# Altium integrated library NSC Interface.IntLib: 504 symbols (part 13 of 16)
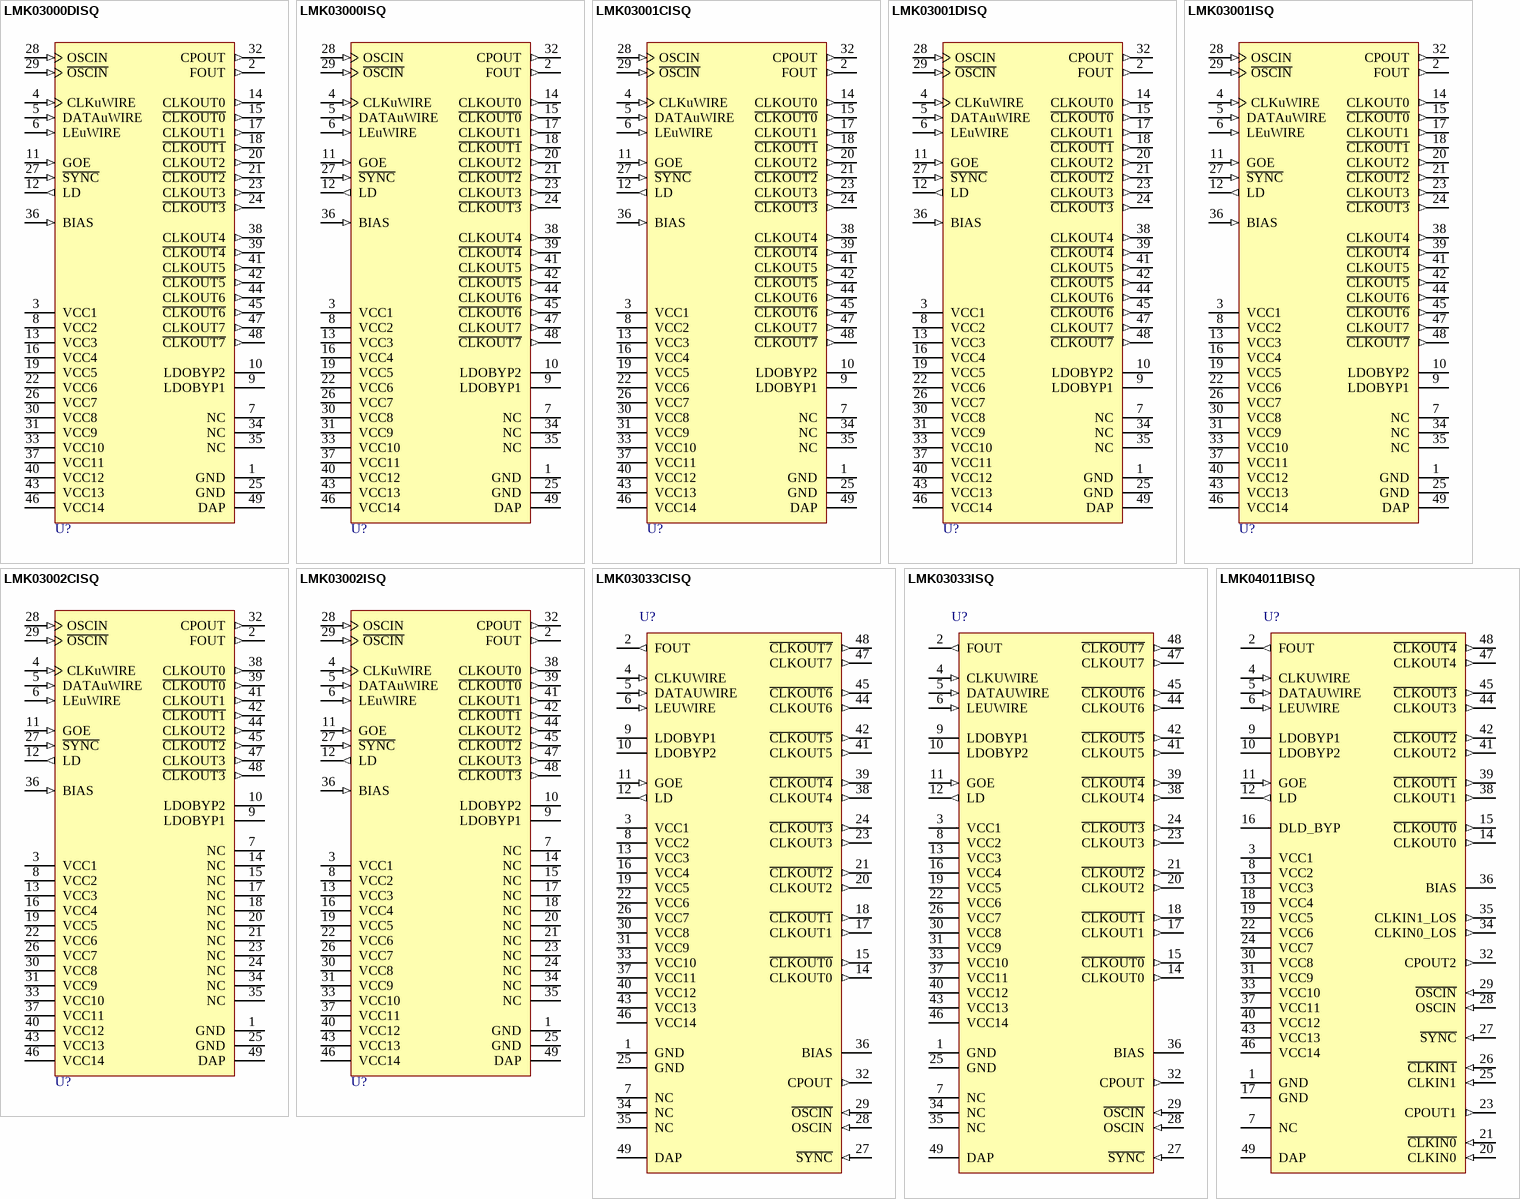
[diagram p53: symbols LMK03000DISQ to LMK04011BISQ]

## LMK03001DISQ
designator U?
Precision Clock Conditioner with Integrated VCO; PartNumber: LMK03001DISQ; Manufacturer: National Semiconductor; CompType: Interface IC; PackageTopMarking: NS*UZXYTT*K03001DI; PowerWise: N; Published: 4-Dec-2008; DatasheetVersion: Mar-2008; PackageVersion: revA, May-2003; PackageReference: SQA48A; Publisher: Altium Limited; PackageDescription: LLP, Plastic, Quad, 7 x 7 x 0.8mm Body, 48 Lead, 0.5mm Pitch, No Pullback; RoHS: Y; PinCount: 48; DigiKeyPartNumber: LMK03001DISQX-ND; Code_JEDEC: MO-220-WKKD-2; ComponentLink1Description: LMK03001 Datasheet; ComponentLink1URL: http://www.national.com/ds/LM/LMK03001D.pdf; ComponentLink2Description: LMK03001 Web Page; ComponentLink2URL: http://www.national.com/pf/LM/LMK03001.html; ComponentLink3Description: SQA48A Package Page; ComponentLink3URL: http://www.national.com/packaging/folders/sqa48a.html
footprint SQA48A (QFN, 48-Leads, Body 7x7mm, Pitch 0.5mm, NSC Recommended)
pins: 1 GND (power), 2 FOUT (out), 3 VCC1 (power), 4 CLKuWIRE (in), 5 DATAuWIRE (in), 6 LEuWIRE (in), 7 NC, 8 VCC2 (power), 9 LDOBYP1, 10 LDOBYP2, 11 GOE (in), 12 LD (out), 13 VCC3 (power), 14 CLKOUT0 (out), 15 ~{CLKOUT0} (out), 16 VCC4 (power), 17 CLKOUT1 (out), 18 ~{CLKOUT1} (out), 19 VCC5 (power), 20 CLKOUT2 (out), 21 ~{CLKOUT2} (out), 22 VCC6 (power), 23 CLKOUT3 (out), 24 ~{CLKOUT3} (out), 25 GND (power), 26 VCC7 (power), 27 ~{SYNC} (in), 28 OSCIN (in), 29 ~{OSCIN} (in), 30 VCC8 (power), 31 VCC9 (power), 32 CPOUT (out), 33 VCC10 (power), 34 NC, 35 NC, 36 BIAS (in), 37 VCC11 (power), 38 CLKOUT4 (out), 39 ~{CLKOUT4} (out), 40 VCC12 (power), 41 CLKOUT5 (out), 42 ~{CLKOUT5} (out), 43 VCC13 (power), 44 CLKOUT6 (out), 45 ~{CLKOUT6} (out), 46 VCC14 (power), 47 CLKOUT7 (out), 48 ~{CLKOUT7} (out), 49 DAP (power)

## LMK03001ISQ
designator U?
Precision Clock Conditioner with Integrated VCO; PartNumber: LMK03001ISQ; Manufacturer: National Semiconductor; CompType: Interface IC; PackageTopMarking: NS*UZXYTT*K03001 I; PowerWise: Y; Published: 4-Dec-2008; DatasheetVersion: Mar-2008; PackageVersion: revA, May-2003; PackageReference: SQA48A; Publisher: Altium Limited; PackageDescription: LLP, Plastic, Quad, 7 x 7 x 0.8mm Body, 48 Lead, 0.5mm Pitch, No Pullback; RoHS: Y; PinCount: 48; DigiKeyPartNumber: LMK03001ISQTR-ND; Code_JEDEC: MO-220-WKKD-2; ComponentLink1Description: LMK03001 Datasheet; ComponentLink1URL: http://www.national.com/ds/LM/LMK03001.pdf; ComponentLink2Description: LMK03001 Web Page; ComponentLink2URL: http://www.national.com/pf/LM/LMK03001.html; ComponentLink3Description: SQA48A Package Page; ComponentLink3URL: http://www.national.com/packaging/folders/sqa48a.html
footprint SQA48A (QFN, 48-Leads, Body 7x7mm, Pitch 0.5mm, NSC Recommended)
pins: 1 GND (power), 2 FOUT (out), 3 VCC1 (power), 4 CLKuWIRE (in), 5 DATAuWIRE (in), 6 LEuWIRE (in), 7 NC, 8 VCC2 (power), 9 LDOBYP1, 10 LDOBYP2, 11 GOE (in), 12 LD (out), 13 VCC3 (power), 14 CLKOUT0 (out), 15 ~{CLKOUT0} (out), 16 VCC4 (power), 17 CLKOUT1 (out), 18 ~{CLKOUT1} (out), 19 VCC5 (power), 20 CLKOUT2 (out), 21 ~{CLKOUT2} (out), 22 VCC6 (power), 23 CLKOUT3 (out), 24 ~{CLKOUT3} (out), 25 GND (power), 26 VCC7 (power), 27 ~{SYNC} (in), 28 OSCIN (in), 29 ~{OSCIN} (in), 30 VCC8 (power), 31 VCC9 (power), 32 CPOUT (out), 33 VCC10 (power), 34 NC, 35 NC, 36 BIAS (in), 37 VCC11 (power), 38 CLKOUT4 (out), 39 ~{CLKOUT4} (out), 40 VCC12 (power), 41 CLKOUT5 (out), 42 ~{CLKOUT5} (out), 43 VCC13 (power), 44 CLKOUT6 (out), 45 ~{CLKOUT6} (out), 46 VCC14 (power), 47 CLKOUT7 (out), 48 ~{CLKOUT7} (out), 49 DAP (power)

## LMK03002CISQ
designator U?
Precision Clock Conditioner with Integrated VCO; PartNumber: LMK03002CISQ; Manufacturer: National Semiconductor; CompType: Interface IC; PackageTopMarking: NS*UZXYTT*K03002CI; PowerWise: Y; Published: 4-Dec-2008; DatasheetVersion: Aug-2007; PackageVersion: revA, May-2003; PackageReference: SQA48A; Publisher: Altium Limited; PackageDescription: LLP, Plastic, Quad, 7 x 7 x 0.8mm Body, 48 Lead, 0.5mm Pitch, No Pullback; RoHS: Y; PinCount: 48; DigiKeyPartNumber: LMK03002CISQTR-ND; Code_JEDEC: MO-220-WKKD-2; ComponentLink1Description: LMK03002C Datasheet; ComponentLink1URL: http://www.national.com/ds/LM/LMK03002C.pdf; ComponentLink2Description: LMK03002C Web Page; ComponentLink2URL: http://www.national.com/pf/LM/LMK03002C.html; ComponentLink3Description: SQA48A Package Page; ComponentLink3URL: http://www.national.com/packaging/folders/sqa48a.html
footprint SQA48A (QFN, 48-Leads, Body 7x7mm, Pitch 0.5mm, NSC Recommended)
pins: 1 GND (power), 2 FOUT (out), 3 VCC1 (power), 4 CLKuWIRE (in), 5 DATAuWIRE (in), 6 LEuWIRE (in), 7 NC, 8 VCC2 (power), 9 LDOBYP1, 10 LDOBYP2, 11 GOE (in), 12 LD (out), 13 VCC3 (power), 14 NC, 15 NC, 16 VCC4 (power), 17 NC, 18 NC, 19 VCC5 (power), 20 NC, 21 NC, 22 VCC6 (power), 23 NC, 24 NC, 25 GND (power), 26 VCC7 (power), 27 ~{SYNC} (in), 28 OSCIN (in), 29 ~{OSCIN} (in), 30 VCC8 (power), 31 VCC9 (power), 32 CPOUT (out), 33 VCC10 (power), 34 NC, 35 NC, 36 BIAS (in), 37 VCC11 (power), 38 CLKOUT0 (out), 39 ~{CLKOUT0} (out), 40 VCC12 (power), 41 CLKOUT1 (out), 42 ~{CLKOUT1} (out), 43 VCC13 (power), 44 CLKOUT2 (out), 45 ~{CLKOUT2} (out), 46 VCC14 (power), 47 CLKOUT3 (out), 48 ~{CLKOUT3} (out), 49 DAP (power)

## LMK03002ISQ
designator U?
Precision Clock Conditioner with Integrated VCO; PartNumber: LMK03002ISQ; Manufacturer: National Semiconductor; CompType: Interface IC; PackageTopMarking: NS*UZXYTT*K03002 I; PowerWise: Y; Published: 4-Dec-2008; DatasheetVersion: Aug-2007; PackageVersion: revA, May-2003; PackageReference: SQA48A; Publisher: Altium Limited; PackageDescription: LLP, Plastic, Quad, 7 x 7 x 0.8mm Body, 48 Lead, 0.5mm Pitch, No Pullback; RoHS: Y; PinCount: 48; DigiKeyPartNumber: LMK03002ISQTR-ND; Code_JEDEC: MO-220-WKKD-2; ComponentLink1Description: LMK03002 Datasheet; ComponentLink1URL: http://www.national.com/ds/LM/LMK03002.pdf; ComponentLink2Description: LMK03002 Web Page; ComponentLink2URL: http://www.national.com/pf/LM/LMK03002.html; ComponentLink3Description: SQA48A Package Page; ComponentLink3URL: http://www.national.com/packaging/folders/sqa48a.html
footprint SQA48A (QFN, 48-Leads, Body 7x7mm, Pitch 0.5mm, NSC Recommended)
pins: 1 GND (power), 2 FOUT (out), 3 VCC1 (power), 4 CLKuWIRE (in), 5 DATAuWIRE (in), 6 LEuWIRE (in), 7 NC, 8 VCC2 (power), 9 LDOBYP1, 10 LDOBYP2, 11 GOE (in), 12 LD (out), 13 VCC3 (power), 14 NC, 15 NC, 16 VCC4 (power), 17 NC, 18 NC, 19 VCC5 (power), 20 NC, 21 NC, 22 VCC6 (power), 23 NC, 24 NC, 25 GND (power), 26 VCC7 (power), 27 ~{SYNC} (in), 28 OSCIN (in), 29 ~{OSCIN} (in), 30 VCC8 (power), 31 VCC9 (power), 32 CPOUT (out), 33 VCC10 (power), 34 NC, 35 NC, 36 BIAS (in), 37 VCC11 (power), 38 CLKOUT0 (out), 39 ~{CLKOUT0} (out), 40 VCC12 (power), 41 CLKOUT1 (out), 42 ~{CLKOUT1} (out), 43 VCC13 (power), 44 CLKOUT2 (out), 45 ~{CLKOUT2} (out), 46 VCC14 (power), 47 CLKOUT3 (out), 48 ~{CLKOUT3} (out), 49 DAP (power)

## LMK03033CISQ
designator U?
Precision Clock Conditioner with Integrated VCO; PartNumber: LMK03033CISQ; Manufacturer: National Semiconductor; CompType: Interface IC; PackageTopMarking: NS*UZXYTT*K03033CI; PowerWise: Y; Published: 4-Dec-2008; LatestRevisionDate: 29-May-2009; LatestRevisionNote: Sch layout changed, complimentary pins marked.; DatasheetVersion: Sep-2008; PackageVersion: revA, May-2003; PackageReference: SQA48A; Publisher: Altium Limited; RoHS: Y; PinCount: 48; Code_JEDEC: MO-220-WKKD-2; ComponentLink1Description: LMK03033C Datasheet; ComponentLink1URL: http://www.national.com/ds/LM/LMK03033C.pdf; ComponentLink2Description: LMK03033C Web Page; ComponentLink2URL: http://www.national.com/pf/LM/LMK03033C.html; ComponentLink3Description: SQA48A Package Page; ComponentLink3URL: http://www.national.com/packaging/folders/sqa48a.html
footprint SQA48A (QFN, 48-Leads, Body 7x7mm, Pitch 0.5mm, NSC Recommended)
pins: 1 GND (power), 2 FOUT (out), 3 VCC1 (power), 4 CLKUWIRE (in), 5 DATAUWIRE (in), 6 LEUWIRE (in), 7 NC, 8 VCC2 (power), 9 LDOBYP1, 10 LDOBYP2, 11 GOE (in), 12 LD (out), 13 VCC3 (power), 14 CLKOUT0 (out), 15 ~{CLKOUT0} (out), 16 VCC4 (power), 17 CLKOUT1 (out), 18 ~{CLKOUT1} (out), 19 VCC5 (power), 20 CLKOUT2 (out), 21 ~{CLKOUT2} (out), 22 VCC6 (power), 23 CLKOUT3 (out), 24 ~{CLKOUT3} (out), 25 GND (power), 26 VCC7 (power), 27 ~{SYNC} (in), 28 OSCIN (in), 29 ~{OSCIN} (in), 30 VCC8 (power), 31 VCC9 (power), 32 CPOUT (out), 33 VCC10 (power), 34 NC, 35 NC, 36 BIAS, 37 VCC11 (power), 38 CLKOUT4 (out), 39 ~{CLKOUT4} (out), 40 VCC12 (power), 41 CLKOUT5 (out), 42 ~{CLKOUT5} (out), 43 VCC13 (power), 44 CLKOUT6 (out), 45 ~{CLKOUT6} (out), 46 VCC14 (power), 47 CLKOUT7 (out), 48 ~{CLKOUT7} (out), 49 DAP (power)

## LMK03033ISQ
designator U?
Precision Clock Conditioner with Integrated VCO; PartNumber: LMK03033ISQ; Manufacturer: National Semiconductor; CompType: Interface IC; PackageTopMarking: NS*UZXYTT*K03033 I; PowerWise: Y; Published: 4-Dec-2008; LatestRevisionDate: 29-May-2009; LatestRevisionNote: Sch layout changed, complimentary pins marked.; DatasheetVersion: Sep-2008; PackageVersion: revA, May-2003; PackageReference: SQA48A; Publisher: Altium Limited; RoHS: Y; PinCount: 48; Code_JEDEC: MO-220-WKKD-2; ComponentLink1Description: LMK03033 Datasheet; ComponentLink1URL: http://www.national.com/ds/LM/LMK03033.pdf; ComponentLink2Description: LMK03033 Web Page; ComponentLink2URL: http://www.national.com/pf/LM/LMK03033.html; ComponentLink3Description: SQA48A Package Page; ComponentLink3URL: http://www.national.com/packaging/folders/sqa48a.html
footprint SQA48A (QFN, 48-Leads, Body 7x7mm, Pitch 0.5mm, NSC Recommended)
pins: 1 GND (power), 2 FOUT (out), 3 VCC1 (power), 4 CLKUWIRE (in), 5 DATAUWIRE (in), 6 LEUWIRE (in), 7 NC, 8 VCC2 (power), 9 LDOBYP1, 10 LDOBYP2, 11 GOE (in), 12 LD (out), 13 VCC3 (power), 14 CLKOUT0 (out), 15 ~{CLKOUT0} (out), 16 VCC4 (power), 17 CLKOUT1 (out), 18 ~{CLKOUT1} (out), 19 VCC5 (power), 20 CLKOUT2 (out), 21 ~{CLKOUT2} (out), 22 VCC6 (power), 23 CLKOUT3 (out), 24 ~{CLKOUT3} (out), 25 GND (power), 26 VCC7 (power), 27 ~{SYNC} (in), 28 OSCIN (in), 29 ~{OSCIN} (in), 30 VCC8 (power), 31 VCC9 (power), 32 CPOUT (out), 33 VCC10 (power), 34 NC, 35 NC, 36 BIAS, 37 VCC11 (power), 38 CLKOUT4 (out), 39 ~{CLKOUT4} (out), 40 VCC12 (power), 41 CLKOUT5 (out), 42 ~{CLKOUT5} (out), 43 VCC13 (power), 44 CLKOUT6 (out), 45 ~{CLKOUT6} (out), 46 VCC14 (power), 47 CLKOUT7 (out), 48 ~{CLKOUT7} (out), 49 DAP (power)

## LMK04011BISQ
designator U?
Precision Clock Conditioners Low-Noise Clock Jitter Cleaner with Cascaded PLLs; PartNumber: LMK04011BISQ; Manufacturer: National Semiconductor; CompType: Interface IC; PackageTopMarking: NS*UZXYTT*K04011BI; PowerWise: Y; Published: 4-Dec-2008; LatestRevisionDate: 29-May-2009; LatestRevisionNote: Sch layout changed, complimentary pins marked.; DatasheetVersion: Oct-2008; PackageVersion: revA, May-2003; PackageReference: SQA48A; Publisher: Altium Limited; RoHS: Y; PinCount: 48; DigiKeyPartNumber: LMK04011BISQ-ND; Code_JEDEC: MO-220-WKKD-2; ComponentLink1Description: LMK04011B Datasheet; ComponentLink1URL: http://www.national.com/ds/LM/LMK04011B.pdf; ComponentLink2Description: LMK04011B Web Page; ComponentLink2URL: http://www.national.com/pf/LM/LMK04011B.html; ComponentLink3Description: SQA48A Package Page; ComponentLink3URL: http://www.national.com/packaging/folders/sqa48a.html
footprint SQA48A (QFN, 48-Leads, Body 7x7mm, Pitch 0.5mm, NSC Recommended)
pins: 1 GND (power), 2 FOUT (out), 3 VCC1 (power), 4 CLKUWIRE (in), 5 DATAUWIRE (in), 6 LEUWIRE (in), 7 NC, 8 VCC2 (power), 9 LDOBYP1, 10 LDOBYP2, 11 GOE (in), 12 LD (out), 13 VCC3 (power), 14 CLKOUT0 (out), 15 ~{CLKOUT0} (out), 16 DLD_BYP (power), 17 GND (power), 18 VCC4 (power), 19 VCC5 (power), 20 CLKIN0 (in), 21 ~{CLKIN0} (in), 22 VCC6 (power), 23 CPOUT1 (out), 24 VCC7 (power), 25 CLKIN1 (in), 26 ~{CLKIN1} (in), 27 ~{SYNC} (in), 28 OSCIN (in), 29 ~{OSCIN} (in), 30 VCC8 (power), 31 VCC9 (power), 32 CPOUT2 (out), 33 VCC10 (power), 34 CLKIN0_LOS (out), 35 CLKIN1_LOS (out), 36 BIAS, 37 VCC11 (power), 38 CLKOUT1 (out), 39 ~{CLKOUT1} (out), 40 VCC12 (power), 41 CLKOUT2 (out), 42 ~{CLKOUT2} (out), 43 VCC13 (power), 44 CLKOUT3 (out), 45 ~{CLKOUT3} (out), 46 VCC14 (power), 47 CLKOUT4 (out), 48 ~{CLKOUT4} (out), 49 DAP (power)

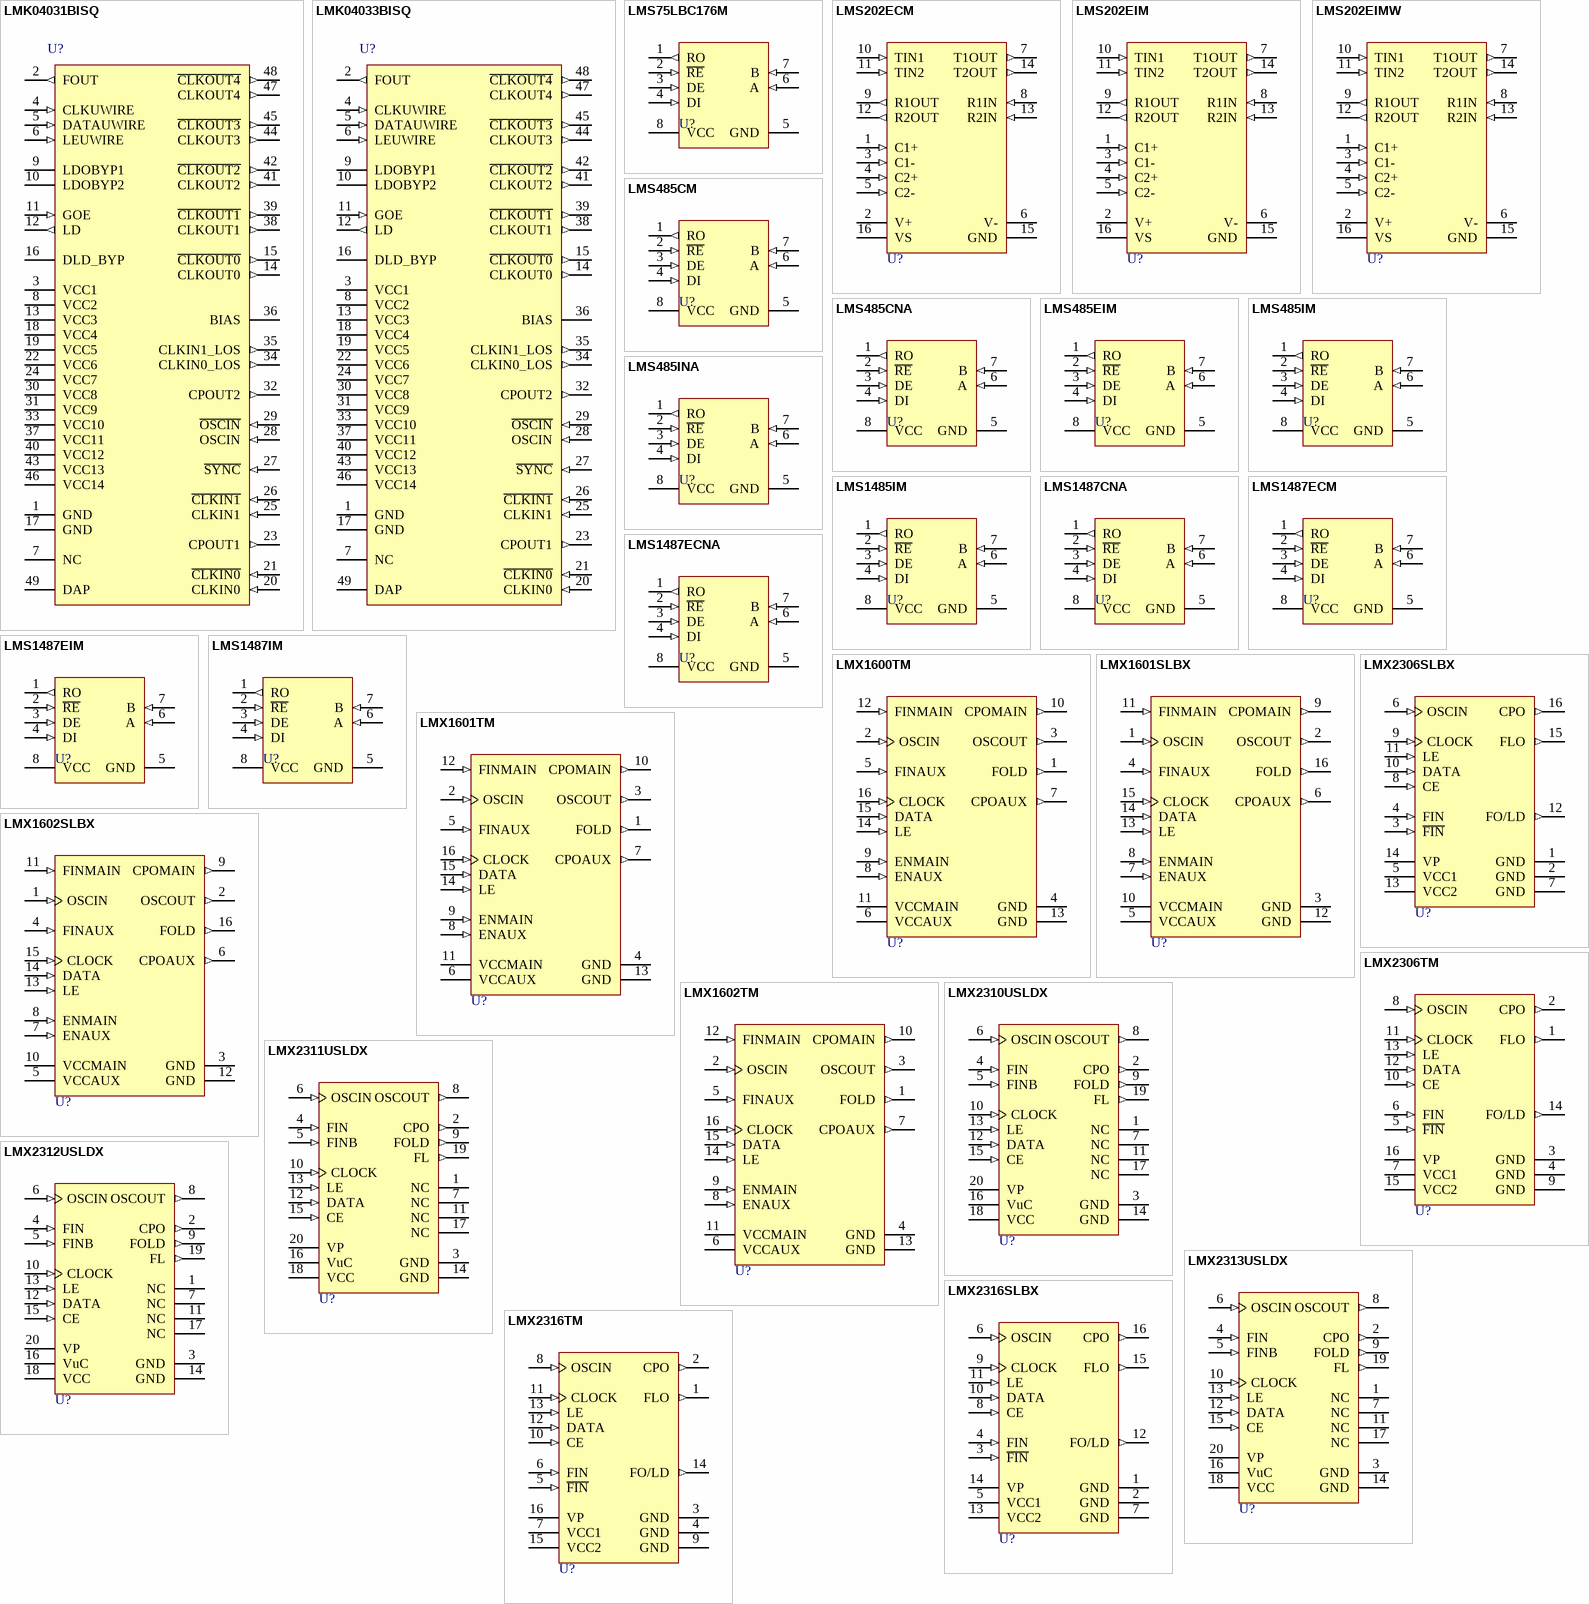
[diagram p33: symbols LMK04031BISQ to LMX2316TM]

## LMK04031BISQ
designator U?
Precision Clock Conditioners Low-Noise Clock Jitter Cleaner with Cascaded PLLs; PartNumber: LMK04031BISQ; Manufacturer: National Semiconductor; CompType: Interface IC; PackageTopMarking: NS*UZXYTT*K04031BI; PowerWise: Y; Published: 4-Dec-2008; LatestRevisionDate: 29-May-2009; LatestRevisionNote: Sch layout changed, complimentary pins marked.; DatasheetVersion: Oct-2008; PackageVersion: revA, May-2003; PackageReference: SQA48A; Publisher: Altium Limited; RoHS: Y; PinCount: 48; DigiKeyPartNumber: LMK04031BISQ-ND; Code_JEDEC: MO-220-WKKD-2; ComponentLink1Description: LMK04031B Datasheet; ComponentLink1URL: http://www.national.com/ds/LM/LMK04031B.pdf; ComponentLink2Description: LMK04031B Web Page; ComponentLink2URL: http://www.national.com/pf/LM/LMK04031B.html; ComponentLink3Description: SQA48A Package Page; ComponentLink3URL: http://www.national.com/packaging/folders/sqa48a.html
footprint SQA48A (QFN, 48-Leads, Body 7x7mm, Pitch 0.5mm, NSC Recommended)
pins: 1 GND (power), 2 FOUT (out), 3 VCC1 (power), 4 CLKUWIRE (in), 5 DATAUWIRE (in), 6 LEUWIRE (in), 7 NC, 8 VCC2 (power), 9 LDOBYP1, 10 LDOBYP2, 11 GOE (in), 12 LD (out), 13 VCC3 (power), 14 CLKOUT0 (out), 15 ~{CLKOUT0} (out), 16 DLD_BYP (power), 17 GND (power), 18 VCC4 (power), 19 VCC5 (power), 20 CLKIN0 (in), 21 ~{CLKIN0} (in), 22 VCC6 (power), 23 CPOUT1 (out), 24 VCC7 (power), 25 CLKIN1 (in), 26 ~{CLKIN1} (in), 27 ~{SYNC} (in), 28 OSCIN (in), 29 ~{OSCIN} (in), 30 VCC8 (power), 31 VCC9 (power), 32 CPOUT2 (out), 33 VCC10 (power), 34 CLKIN0_LOS (out), 35 CLKIN1_LOS (out), 36 BIAS, 37 VCC11 (power), 38 CLKOUT1 (out), 39 ~{CLKOUT1} (out), 40 VCC12 (power), 41 CLKOUT2 (out), 42 ~{CLKOUT2} (out), 43 VCC13 (power), 44 CLKOUT3 (out), 45 ~{CLKOUT3} (out), 46 VCC14 (power), 47 CLKOUT4 (out), 48 ~{CLKOUT4} (out), 49 DAP (power)

## LMK04033BISQ
designator U?
Precision Clock Conditioners Low-Noise Clock Jitter Cleaner with Cascaded PLLs; PartNumber: LMK04033BISQ; Manufacturer: National Semiconductor; CompType: Interface IC; PackageTopMarking: NS*UZXYTT*K04033BI; PowerWise: Y; Published: 4-Dec-2008; LatestRevisionDate: 29-May-2009; LatestRevisionNote: Sch layout changed, complimentary pins marked.; DatasheetVersion: Oct-2008; PackageVersion: revA, May-2003; PackageReference: SQA48A; Publisher: Altium Limited; RoHS: Y; PinCount: 48; Code_JEDEC: MO-220-WKKD-2; ComponentLink1Description: LMK04033B Datasheet; ComponentLink1URL: http://www.national.com/ds/LM/LMK04033B.pdf; ComponentLink2Description: LMK04033B Web Page; ComponentLink2URL: http://www.national.com/pf/LM/LMK04033B.html; ComponentLink3Description: SQA48A Package Page; ComponentLink3URL: http://www.national.com/packaging/folders/sqa48a.html
footprint SQA48A (QFN, 48-Leads, Body 7x7mm, Pitch 0.5mm, NSC Recommended)
pins: 1 GND (power), 2 FOUT (out), 3 VCC1 (power), 4 CLKUWIRE (in), 5 DATAUWIRE (in), 6 LEUWIRE (in), 7 NC, 8 VCC2 (power), 9 LDOBYP1, 10 LDOBYP2, 11 GOE (in), 12 LD (out), 13 VCC3 (power), 14 CLKOUT0 (out), 15 ~{CLKOUT0} (out), 16 DLD_BYP (power), 17 GND (power), 18 VCC4 (power), 19 VCC5 (power), 20 CLKIN0 (in), 21 ~{CLKIN0} (in), 22 VCC6 (power), 23 CPOUT1 (out), 24 VCC7 (power), 25 CLKIN1 (in), 26 ~{CLKIN1} (in), 27 ~{SYNC} (in), 28 OSCIN (in), 29 ~{OSCIN} (in), 30 VCC8 (power), 31 VCC9 (power), 32 CPOUT2 (out), 33 VCC10 (power), 34 CLKIN0_LOS (out), 35 CLKIN1_LOS (out), 36 BIAS, 37 VCC11 (power), 38 CLKOUT1 (out), 39 ~{CLKOUT1} (out), 40 VCC12 (power), 41 CLKOUT2 (out), 42 ~{CLKOUT2} (out), 43 VCC13 (power), 44 CLKOUT3 (out), 45 ~{CLKOUT3} (out), 46 VCC14 (power), 47 CLKOUT4 (out), 48 ~{CLKOUT4} (out), 49 DAP (power)

## LMS75LBC176M
designator U?
Differential Bus Transceivers; PartNumber: LMS75LBC176M; Manufacturer: National Semiconductor; CompType: Interface IC; PackageTopMarking: NSZXTT*75LBC*176; Published: 4-Dec-2008; DatasheetVersion: Apr-2003; PackageVersion: revL, Sep-2006; PackageReference: M08A; Publisher: Altium Limited; PackageDescription: SOIC Narrow, 4.9 x 3.9 x 1.45mm, 8 Lead, 1.27mm Pitch; RoHS: Y; PinCount: 8; Code_JEDEC: MS-012-AA; Code_IPC: SOIC127P600-8; ComponentLink1Description: LMS75LBC176 Datasheet; ComponentLink1URL: http://www.national.com/ds/LM/LMS75LBC176.pdf; ComponentLink2Description: LMS75LBC176 Web Page; ComponentLink2URL: http://www.national.com/pf/LM/LMS75LBC176.html; ComponentLink3Description: M08A Package Page; ComponentLink3URL: http://www.national.com/packaging/folders/m08a.html
footprint M08A_N (SOIC, 8-Leads, Body 4.9x3.9mm, Pitch 1.27mm, IPC Medium Density)
footprint M08A_L (SOIC, 8-Leads, Body 4.9x3.9mm, Pitch 1.27mm, IPC High Density)
footprint M08A_M (SOIC, 8-Leads, Body 4.9x3.9mm, Pitch 1.27mm, IPC Low Density)
pins: 1 RO (out), 2 ~{RE} (in), 3 DE (in), 4 DI (in), 5 GND (power), 6 A (in), 7 B (in), 8 VCC (power)

## LMS202ECM
designator U?
15KV ESD Rated, 5V Single Supply TIA/EIA-232 Dual Transceivers; PartNumber: LMS202ECM; Manufacturer: National Semiconductor; CompType: Interface IC; PackageTopMarking: NSUZXYTT*LMS202ECM; PowerWise: N; Published: 4-Dec-2008; DatasheetVersion: Mar-2003; PackageVersion: revJ, Aug-1995; PackageReference: M16A; Publisher: Altium Limited; PackageDescription: Molded Package, S.O., .150in Wide, 16 Lead; RoHS: Y; PinCount: 16; Code_JEDEC: MS-012-AC; Code_IPC: SOIC127P600-16; ComponentLink1Description: LMS202E Datasheet; ComponentLink1URL: http://www.national.com/ds/LM/LMS202E.pdf; ComponentLink2Description: LMS202E Web Page; ComponentLink2URL: http://www.national.com/pf/LM/LMS202E.html; ComponentLink3Description: M16A Package Page; ComponentLink3URL: http://www.national.com/packaging/folders/m16a.html
footprint M16A_N (SOIC, 16-Leads, Body 9.9x3.9mm, Pitch 1.27mm, IPC Medium Density)
footprint M16A_L (SOIC, 16-Leads, Body 9.9x3.9mm, Pitch 1.27mm, IPC High Density)
footprint M16A_M (SOIC, 16-Leads, Body 9.9x3.9mm, Pitch 1.27mm, IPC Low Density)
pins: 1 C1+ (in), 2 V+ (power), 3 C1- (in), 4 C2+ (in), 5 C2- (in), 6 V- (power), 7 T1OUT (out), 8 R1IN (in), 9 R1OUT (out), 10 TIN1 (in), 11 TIN2 (in), 12 R2OUT (out), 13 R2IN (in), 14 T2OUT (out), 15 GND (power), 16 VS (power)

## LMS202EIM
designator U?
15KV ESD Rated, 5V Single Supply TIA/EIA-232 Dual Transceivers; PartNumber: LMS202EIM; Manufacturer: National Semiconductor; CompType: Interface IC; PackageTopMarking: NSUZXYTT*LMS202EIM; PowerWise: N; Published: 4-Dec-2008; DatasheetVersion: Mar-2003; PackageVersion: revJ, Aug-1995; PackageReference: M16A; Publisher: Altium Limited; PackageDescription: Molded Package, S.O., .150in Wide, 16 Lead; RoHS: Y; PinCount: 16; Code_JEDEC: MS-012-AC; Code_IPC: SOIC127P600-16; ComponentLink1Description: LMS202E Datasheet; ComponentLink1URL: http://www.national.com/ds/LM/LMS202E.pdf; ComponentLink2Description: LMS202E Web Page; ComponentLink2URL: http://www.national.com/pf/LM/LMS202E.html; ComponentLink3Description: M16A Package Page; ComponentLink3URL: http://www.national.com/packaging/folders/m16a.html
footprint M16A_N (SOIC, 16-Leads, Body 9.9x3.9mm, Pitch 1.27mm, IPC Medium Density)
footprint M16A_L (SOIC, 16-Leads, Body 9.9x3.9mm, Pitch 1.27mm, IPC High Density)
footprint M16A_M (SOIC, 16-Leads, Body 9.9x3.9mm, Pitch 1.27mm, IPC Low Density)
pins: 1 C1+ (in), 2 V+ (power), 3 C1- (in), 4 C2+ (in), 5 C2- (in), 6 V- (power), 7 T1OUT (out), 8 R1IN (in), 9 R1OUT (out), 10 TIN1 (in), 11 TIN2 (in), 12 R2OUT (out), 13 R2IN (in), 14 T2OUT (out), 15 GND (power), 16 VS (power)

## LMS202EIMW
designator U?
15KV ESD Rated, 5V Single Supply TIA/EIA-232 Dual Transceivers; PartNumber: LMS202EIMW; Manufacturer: National Semiconductor; CompType: Interface IC; PackageTopMarking: NSUZXYTT*LMS202*EIMW; Published: 4-Dec-2008; DatasheetVersion: Mar-2003; PackageVersion: revF, Apr-1990; PackageReference: M16B; Publisher: Altium Limited; PackageDescription: Molded Package, S.O., .300in Wide, 16 Lead; RoHS: Y; PinCount: 16; Code_JEDEC: MS-013-AA; Code_IPC: SOIC127P1030-16; ComponentLink1Description: LMS202E Datasheet; ComponentLink1URL: http://www.national.com/ds/LM/LMS202E.pdf; ComponentLink2Description: LMS202E Web Page; ComponentLink2URL: http://www.national.com/pf/LM/LMS202E.html; ComponentLink3Description: M16B Package Page; ComponentLink3URL: http://www.national.com/packaging/folders/m16b.html
footprint M16B_N (SOIC, 16-Leads, Body 10.3x7.5mm, Pitch 1.27mm, IPC Medium Density)
footprint M16B_L (SOIC, 16-Leads, Body 10.3x7.5mm, Pitch 1.27mm, IPC High Density)
footprint M16B_M (SOIC, 16-Leads, Body 10.3x7.5mm, Pitch 1.27mm, IPC Low Density)
pins: 1 C1+ (in), 2 V+ (power), 3 C1- (in), 4 C2+ (in), 5 C2- (in), 6 V- (power), 7 T1OUT (out), 8 R1IN (in), 9 R1OUT (out), 10 TIN1 (in), 11 TIN2 (in), 12 R2OUT (out), 13 R2IN (in), 14 T2OUT (out), 15 GND (power), 16 VS (power)

## LMS485CM
designator U?
5V Low Power RS-485 / RS-422 Differential Bus Transceiver; PartNumber: LMS485CM; Manufacturer: National Semiconductor; CompType: Interface IC; PackageTopMarking: NSZXTT*LMS4*85CM; Published: 4-Dec-2008; DatasheetVersion: Apr-2003; PackageVersion: revL, Sep-2006; PackageReference: M08A; Publisher: Altium Limited; PackageDescription: SOIC Narrow, 4.9 x 3.9 x 1.45mm, 8 Lead, 1.27mm Pitch; RoHS: Y; PinCount: 8; Code_JEDEC: MS-012-AA; Code_IPC: SOIC127P600-8; ComponentLink1Description: LMS485 Datasheet; ComponentLink1URL: http://www.national.com/ds/LM/LMS485.pdf; ComponentLink2Description: LMS485 Web Page; ComponentLink2URL: http://www.national.com/pf/LM/LMS485.html; ComponentLink3Description: M08A Package Page; ComponentLink3URL: http://www.national.com/packaging/folders/m08a.html
footprint M08A_N (SOIC, 8-Leads, Body 4.9x3.9mm, Pitch 1.27mm, IPC Medium Density)
footprint M08A_L (SOIC, 8-Leads, Body 4.9x3.9mm, Pitch 1.27mm, IPC High Density)
footprint M08A_M (SOIC, 8-Leads, Body 4.9x3.9mm, Pitch 1.27mm, IPC Low Density)
pins: 1 RO (out), 2 ~{RE} (in), 3 DE (in), 4 DI (in), 5 GND (power), 6 A (in), 7 B (in), 8 VCC (power)

## LMS485CNA
designator U?
5V Low Power RS-485 / RS-422 Differential Bus Transceiver; PartNumber: LMS485CNA; Manufacturer: National Semiconductor; CompType: Interface IC; PackageTopMarking: NSUZXYTT*LMS485CNA; Published: 4-Dec-2008; DatasheetVersion: Apr-2003; PackageVersion: revG, May-2006; PackageReference: N08E; Publisher: Altium Limited; PackageDescription: MDIP, .365 x .250 x .130in, 8 Lead, .100in Pitch; RoHS: Y; PinCount: 8; Code_JEDEC: MS-001-BA; ComponentLink1Description: LMS485 Datasheet; ComponentLink1URL: http://www.national.com/ds/LM/LMS485.pdf; ComponentLink2Description: LMS485 Web Page; ComponentLink2URL: http://www.national.com/pf/LM/LMS485.html; ComponentLink3Description: N08E Package Page; ComponentLink3URL: http://www.national.com/packaging/folders/n08e.html
footprint N08E (DIP, 8-Leads, Row Spacing 7.62mm, Pitch 2.54mm, Body 9.91x6.35mm)
pins: 1 RO (out), 2 ~{RE} (in), 3 DE (in), 4 DI (in), 5 GND (power), 6 A (in), 7 B (in), 8 VCC (power)

## LMS485EIM
designator U?
Low Power RS-485 / RS-422 Differential Bus Transceiver-485 / RS-422 Differential Bus Transceiver; PartNumber: LMS485EIM; Manufacturer: National Semiconductor; CompType: Interface IC; PackageTopMarking: NSZXTT*LMS48*5EIM; Published: 4-Dec-2008; DatasheetVersion: Apr-2003; PackageVersion: revL, Sep-2006; PackageReference: M08A; Publisher: Altium Limited; PackageDescription: SOIC Narrow, 4.9 x 3.9 x 1.45mm, 8 Lead, 1.27mm Pitch; RoHS: Y; PinCount: 8; Code_JEDEC: MS-012-AA; Code_IPC: SOIC127P600-8; ComponentLink1Description: LMS485E Datasheet; ComponentLink1URL: http://www.national.com/ds/LM/LMS485.pdf; ComponentLink2Description: LMS485E Web Page; ComponentLink2URL: http://www.national.com/pf/LM/LMS485E.html; ComponentLink3Description: M08A Package Page; ComponentLink3URL: http://www.national.com/packaging/folders/m08a.html
footprint M08A_N (SOIC, 8-Leads, Body 4.9x3.9mm, Pitch 1.27mm, IPC Medium Density)
footprint M08A_L (SOIC, 8-Leads, Body 4.9x3.9mm, Pitch 1.27mm, IPC High Density)
footprint M08A_M (SOIC, 8-Leads, Body 4.9x3.9mm, Pitch 1.27mm, IPC Low Density)
pins: 1 RO (out), 2 ~{RE} (in), 3 DE (in), 4 DI (in), 5 GND (power), 6 A (in), 7 B (in), 8 VCC (power)

## LMS485IM
designator U?
5V Low Power RS-485 / RS-422 Differential Bus Transceiver; PartNumber: LMS485IM; Manufacturer: National Semiconductor; CompType: Interface IC; PackageTopMarking: NSZXTT*LMS4*85IM; PowerWise: N; Published: 4-Dec-2008; DatasheetVersion: Apr-2003; PackageVersion: revL, Sep-2006; PackageReference: M08A; Publisher: Altium Limited; PackageDescription: SOIC Narrow, 4.9 x 3.9 x 1.45mm, 8 Lead, 1.27mm Pitch; RoHS: Y; PinCount: 8; Code_JEDEC: MS-012-AA; Code_IPC: SOIC127P600-8; ComponentLink1Description: LMS485 Datasheet; ComponentLink1URL: http://www.national.com/ds/LM/LMS485.pdf; ComponentLink2Description: LMS485 Web Page; ComponentLink2URL: http://www.national.com/pf/LM/LMS485.html; ComponentLink3Description: M08A Package Page; ComponentLink3URL: http://www.national.com/packaging/folders/m08a.html
footprint M08A_N (SOIC, 8-Leads, Body 4.9x3.9mm, Pitch 1.27mm, IPC Medium Density)
footprint M08A_L (SOIC, 8-Leads, Body 4.9x3.9mm, Pitch 1.27mm, IPC High Density)
footprint M08A_M (SOIC, 8-Leads, Body 4.9x3.9mm, Pitch 1.27mm, IPC Low Density)
pins: 1 RO (out), 2 ~{RE} (in), 3 DE (in), 4 DI (in), 5 GND (power), 6 A (in), 7 B (in), 8 VCC (power)

## LMS485INA
designator U?
5V Low Power RS-485 / RS-422 Differential Bus Transceiver; PartNumber: LMS485INA; Manufacturer: National Semiconductor; CompType: Interface IC; PackageTopMarking: NSUZXYTT*LMS485INA; Published: 4-Dec-2008; DatasheetVersion: Apr-2003; PackageVersion: revG, May-2006; PackageReference: N08E; Publisher: Altium Limited; PackageDescription: MDIP, .365 x .250 x .130in, 8 Lead, .100in Pitch; RoHS: Y; PinCount: 8; Code_JEDEC: MS-001-BA; ComponentLink1Description: LMS485 Datasheet; ComponentLink1URL: http://www.national.com/ds/LM/LMS485.pdf; ComponentLink2Description: LMS485 Web Page; ComponentLink2URL: http://www.national.com/pf/LM/LMS485.html; ComponentLink3Description: N08E Package Page; ComponentLink3URL: http://www.national.com/packaging/folders/n08e.html
footprint N08E (DIP, 8-Leads, Row Spacing 7.62mm, Pitch 2.54mm, Body 9.91x6.35mm)
pins: 1 RO (out), 2 ~{RE} (in), 3 DE (in), 4 DI (in), 5 GND (power), 6 A (in), 7 B (in), 8 VCC (power)

## LMS1485IM
designator U?
5V Low Power RS-485 Differential Bus Transceiver; PartNumber: LMS1485IM; Manufacturer: National Semiconductor; CompType: Interface IC; PackageTopMarking: NSZXTT*LMS14*85IM; Published: 4-Dec-2008; DatasheetVersion: Jul-2003; PackageVersion: revL, Sep-2006; PackageReference: M08A; Publisher: Altium Limited; PackageDescription: SOIC Narrow, 4.9 x 3.9 x 1.45mm, 8 Lead, 1.27mm Pitch; RoHS: Y; PinCount: 8; Code_JEDEC: MS-012-AA; Code_IPC: SOIC127P600-8; ComponentLink1Description: LMS1485 Datasheet; ComponentLink1URL: http://www.national.com/ds/LM/LMS1485.pdf; ComponentLink2Description: LMS1485 Web Page; ComponentLink2URL: http://www.national.com/pf/LM/LMS1485.html; ComponentLink3Description: M08A Package Page; ComponentLink3URL: http://www.national.com/packaging/folders/m08a.html
footprint M08A_N (SOIC, 8-Leads, Body 4.9x3.9mm, Pitch 1.27mm, IPC Medium Density)
footprint M08A_L (SOIC, 8-Leads, Body 4.9x3.9mm, Pitch 1.27mm, IPC High Density)
footprint M08A_M (SOIC, 8-Leads, Body 4.9x3.9mm, Pitch 1.27mm, IPC Low Density)
pins: 1 RO (out), 2 ~{RE} (in), 3 DE (in), 4 DI (in), 5 GND (power), 6 A (in), 7 B (in), 8 VCC (power)

## LMS1487CNA
designator U?
5V Low Power RS-485 / RS-422 Differential Bus Transceiver; PartNumber: LMS1487CNA; Manufacturer: National Semiconductor; CompType: Interface IC; PackageTopMarking: NSUZXYTT*LMS1487*CNA; Published: 4-Dec-2008; DatasheetVersion: Apr-2003; PackageVersion: revG, May-2006; PackageReference: N08E; Publisher: Altium Limited; PackageDescription: MDIP, .365 x .250 x .130in, 8 Lead, .100in Pitch; RoHS: Y; PinCount: 8; Code_JEDEC: MS-001-BA; ComponentLink1Description: LMS1487 Datasheet; ComponentLink1URL: http://www.national.com/ds/LM/LMS1487.pdf; ComponentLink2Description: LMS1487 Web Page; ComponentLink2URL: http://www.national.com/pf/LM/LMS1487.html; ComponentLink3Description: N08E Package Page; ComponentLink3URL: http://www.national.com/packaging/folders/n08e.html
footprint N08E (DIP, 8-Leads, Row Spacing 7.62mm, Pitch 2.54mm, Body 9.91x6.35mm)
pins: 1 RO (out), 2 ~{RE} (in), 3 DE (in), 4 DI (in), 5 GND (power), 6 A (in), 7 B (in), 8 VCC (power)

## LMS1487ECM
designator U?
Low Power RS-485 / RS-422 Differential Bus Transceiver-485 / RS-422 Differential Bus Transceiver; PartNumber: LMS1487ECM; Manufacturer: National Semiconductor; CompType: Interface IC; PackageTopMarking: NSZXTT*LMS14*87ECM; Published: 4-Dec-2008; DatasheetVersion: Apr-2003; PackageVersion: revL, Sep-2006; PackageReference: M08A; Publisher: Altium Limited; PackageDescription: SOIC Narrow, 4.9 x 3.9 x 1.45mm, 8 Lead, 1.27mm Pitch; RoHS: Y; PinCount: 8; Code_JEDEC: MS-012-AA; Code_IPC: SOIC127P600-8; ComponentLink1Description: LMS1487E Datasheet; ComponentLink1URL: http://www.national.com/ds/LM/LMS1487.pdf; ComponentLink2Description: LMS1487E Web Page; ComponentLink2URL: http://www.national.com/pf/LM/LMS1487E.html; ComponentLink3Description: M08A Package Page; ComponentLink3URL: http://www.national.com/packaging/folders/m08a.html
footprint M08A_N (SOIC, 8-Leads, Body 4.9x3.9mm, Pitch 1.27mm, IPC Medium Density)
footprint M08A_L (SOIC, 8-Leads, Body 4.9x3.9mm, Pitch 1.27mm, IPC High Density)
footprint M08A_M (SOIC, 8-Leads, Body 4.9x3.9mm, Pitch 1.27mm, IPC Low Density)
pins: 1 RO (out), 2 ~{RE} (in), 3 DE (in), 4 DI (in), 5 GND (power), 6 A (in), 7 B (in), 8 VCC (power)

## LMS1487ECNA
designator U?
Low Power RS-485 / RS-422 Differential Bus Transceiver-485 / RS-422 Differential Bus Transceiver; PartNumber: LMS1487ECNA; Manufacturer: National Semiconductor; CompType: Interface IC; PackageTopMarking: NSUZXYTT*LMS1487*ECNA; Published: 4-Dec-2008; DatasheetVersion: Apr-2003; PackageVersion: revG, May-2006; PackageReference: N08E; Publisher: Altium Limited; PackageDescription: MDIP, .365 x .250 x .130in, 8 Lead, .100in Pitch; RoHS: Y; PinCount: 8; Code_JEDEC: MS-001-BA; ComponentLink1Description: LMS1487E Datasheet; ComponentLink1URL: http://www.national.com/ds/LM/LMS1487.pdf; ComponentLink2Description: LMS1487E Web Page; ComponentLink2URL: http://www.national.com/pf/LM/LMS1487E.html; ComponentLink3Description: N08E Package Page; ComponentLink3URL: http://www.national.com/packaging/folders/n08e.html
footprint N08E (DIP, 8-Leads, Row Spacing 7.62mm, Pitch 2.54mm, Body 9.91x6.35mm)
pins: 1 RO (out), 2 ~{RE} (in), 3 DE (in), 4 DI (in), 5 GND (power), 6 A (in), 7 B (in), 8 VCC (power)

## LMS1487EIM
designator U?
Low Power RS-485 / RS-422 Differential Bus Transceiver-485 / RS-422 Differential Bus Transceiver; PartNumber: LMS1487EIM; Manufacturer: National Semiconductor; CompType: Interface IC; PackageTopMarking: NSZXTT*LMS14*87EIM; Published: 4-Dec-2008; DatasheetVersion: Apr-2003; PackageVersion: revL, Sep-2006; PackageReference: M08A; Publisher: Altium Limited; PackageDescription: SOIC Narrow, 4.9 x 3.9 x 1.45mm, 8 Lead, 1.27mm Pitch; RoHS: Y; PinCount: 8; Code_JEDEC: MS-012-AA; Code_IPC: SOIC127P600-8; ComponentLink1Description: LMS1487E Datasheet; ComponentLink1URL: http://www.national.com/ds/LM/LMS1487.pdf; ComponentLink2Description: LMS1487E Web Page; ComponentLink2URL: http://www.national.com/pf/LM/LMS1487E.html; ComponentLink3Description: M08A Package Page; ComponentLink3URL: http://www.national.com/packaging/folders/m08a.html
footprint M08A_N (SOIC, 8-Leads, Body 4.9x3.9mm, Pitch 1.27mm, IPC Medium Density)
footprint M08A_L (SOIC, 8-Leads, Body 4.9x3.9mm, Pitch 1.27mm, IPC High Density)
footprint M08A_M (SOIC, 8-Leads, Body 4.9x3.9mm, Pitch 1.27mm, IPC Low Density)
pins: 1 RO (out), 2 ~{RE} (in), 3 DE (in), 4 DI (in), 5 GND (power), 6 A (in), 7 B (in), 8 VCC (power)

## LMS1487IM
designator U?
5V Low Power RS-485 / RS-422 Differential Bus Transceiver; PartNumber: LMS1487IM; Manufacturer: National Semiconductor; CompType: Interface IC; PackageTopMarking: NSZXTT*LMS14*87IM; PowerWise: N; Published: 4-Dec-2008; DatasheetVersion: Apr-2003; PackageVersion: revL, Sep-2006; PackageReference: M08A; Publisher: Altium Limited; PackageDescription: SOIC Narrow, 4.9 x 3.9 x 1.45mm, 8 Lead, 1.27mm Pitch; RoHS: O; PinCount: 8; Code_JEDEC: MS-012-AA; Code_IPC: SOIC127P600-8; ComponentLink1Description: LMS1487 Datasheet; ComponentLink1URL: http://www.national.com/ds/LM/LMS1487.pdf; ComponentLink2Description: LMS1487 Web Page; ComponentLink2URL: http://www.national.com/pf/LM/LMS1487.html; ComponentLink3Description: M08A Package Page; ComponentLink3URL: http://www.national.com/packaging/folders/m08a.html
footprint M08A_N (SOIC, 8-Leads, Body 4.9x3.9mm, Pitch 1.27mm, IPC Medium Density)
footprint M08A_L (SOIC, 8-Leads, Body 4.9x3.9mm, Pitch 1.27mm, IPC High Density)
footprint M08A_M (SOIC, 8-Leads, Body 4.9x3.9mm, Pitch 1.27mm, IPC Low Density)
pins: 1 RO (out), 2 ~{RE} (in), 3 DE (in), 4 DI (in), 5 GND (power), 6 A (in), 7 B (in), 8 VCC (power)

## LMX1600TM
designator U?
2.0 GHz/500 MHz PLLatinum Low Cost Dual Frequency Synthesizer; PartNumber: LMX1600TM; Manufacturer: National Semiconductor; CompType: Interface IC; PackageTopMarking: NSUZXYTT*LMX1600*TMDD; Published: 4-Dec-2008; DatasheetVersion: Jun-2005; PackageVersion: revD, Jun-2003; PackageReference: MTC16; Publisher: Altium Limited; PackageDescription: Molded TSSOP, Jedec, 5 x 4.4 x 0.9mm Body, 16 Lead, 0.65mm Pitch; RoHS: Y; PinCount: 16; DigiKeyPartNumber: LMX1600TM-ND; Code_JEDEC: MO-153-AB; ComponentLink1Description: LMX1600 Datasheet; ComponentLink1URL: http://www.national.com/ds/LM/LMX1600.pdf; ComponentLink2Description: LMX1600 Web Page; ComponentLink2URL: http://www.national.com/pf/LM/LMX1600.html; ComponentLink3Description: MTC16 Package Page; ComponentLink3URL: http://www.national.com/packaging/folders/mtc16.html
footprint MTC16_N (TSOP, 16-Leads, Body 5x4.4mm, Pitch 0.65mm, IPC Medium Density)
footprint MTC16_L (TSOP, 16-Leads, Body 5x4.4mm, Pitch 0.65mm, IPC High Density)
footprint MTC16_M (TSOP, 16-Leads, Body 5x4.4mm, Pitch 0.65mm, IPC Low Density)
pins: 1 FOLD (out), 2 OSCIN (in), 3 OSCOUT (out), 4 GND (power), 5 FINAUX (in), 6 VCCAUX (power), 7 CPOAUX (out), 8 ENAUX (in), 9 ENMAIN (in), 10 CPOMAIN (out), 11 VCCMAIN (power), 12 FINMAIN (in), 13 GND (power), 14 LE (in), 15 DATA (in), 16 CLOCK (in)

## LMX1601SLBX
designator U?
1.1 GHz/500 MHz PLLatinum Low Cost Dual Frequency Synthesizer; PartNumber: LMX1601SLBX; Manufacturer: National Semiconductor; CompType: Interface IC; PackageTopMarking: NSXYTT*X1601*SLBDD; PowerWise: N; Published: 4-Dec-2008; DatasheetVersion: Jun-2005; PackageVersion: revB, Sep-1998; PackageReference: SLB16A; Publisher: Altium Limited; PackageDescription: CSP, Plastic, Laminated, 3.5 x 3.5 x 1.0mm Body, 16 Lead, 0.5mm Pitch; RoHS: O; PinCount: 16; DigiKeyPartNumber: LMX1601SLBXTR-ND; Code_JEDEC: MO-208-CCE; ComponentLink1Description: LMX1601 Datasheet; ComponentLink1URL: http://www.national.com/ds/LM/LMX1601.pdf; ComponentLink2Description: LMX1601 Web Page; ComponentLink2URL: http://www.national.com/pf/LM/LMX1601.html; ComponentLink3Description: SLB16A Package Page; ComponentLink3URL: http://www.national.com/packaging/folders/slb16a.html
footprint SLB16A (PQFN, 16-Leads, Body 3.5x3.5mm, Pitch 0.5mm, NSC Recommended)
pins: 1 OSCIN (in), 2 OSCOUT (out), 3 GND (power), 4 FINAUX (in), 5 VCCAUX (power), 6 CPOAUX (out), 7 ENAUX (in), 8 ENMAIN (in), 9 CPOMAIN (out), 10 VCCMAIN (power), 11 FINMAIN (in), 12 GND (power), 13 LE (in), 14 DATA (in), 15 CLOCK (in), 16 FOLD (out)

## LMX1601TM
designator U?
1.1 GHz/500 MHz PLLatinum Low Cost Dual Frequency Synthesizer; PartNumber: LMX1601TM; Manufacturer: National Semiconductor; CompType: Interface IC; PackageTopMarking: NSUZXYTT*LMX1601*TMDD; PowerWise: N; Published: 4-Dec-2008; DatasheetVersion: Jun-2005; PackageVersion: revD, Jun-2003; PackageReference: MTC16; Publisher: Altium Limited; PackageDescription: Molded TSSOP, Jedec, 5 x 4.4 x 0.9mm Body, 16 Lead, 0.65mm Pitch; RoHS: O; PinCount: 16; DigiKeyPartNumber: LMX1601TM-ND; Code_JEDEC: MO-153-AB; ComponentLink1Description: LMX1601 Datasheet; ComponentLink1URL: http://www.national.com/ds/LM/LMX1601.pdf; ComponentLink2Description: LMX1601 Web Page; ComponentLink2URL: http://www.national.com/pf/LM/LMX1601.html; ComponentLink3Description: MTC16 Package Page; ComponentLink3URL: http://www.national.com/packaging/folders/mtc16.html
footprint MTC16_N (TSOP, 16-Leads, Body 5x4.4mm, Pitch 0.65mm, IPC Medium Density)
footprint MTC16_L (TSOP, 16-Leads, Body 5x4.4mm, Pitch 0.65mm, IPC High Density)
footprint MTC16_M (TSOP, 16-Leads, Body 5x4.4mm, Pitch 0.65mm, IPC Low Density)
pins: 1 FOLD (out), 2 OSCIN (in), 3 OSCOUT (out), 4 GND (power), 5 FINAUX (in), 6 VCCAUX (power), 7 CPOAUX (out), 8 ENAUX (in), 9 ENMAIN (in), 10 CPOMAIN (out), 11 VCCMAIN (power), 12 FINMAIN (in), 13 GND (power), 14 LE (in), 15 DATA (in), 16 CLOCK (in)

## LMX1602SLBX
designator U?
1.1 GHz/1.1 GHz PLLatinum Low Cost Dual Frequency Synthesizer; PartNumber: LMX1602SLBX; Manufacturer: National Semiconductor; CompType: Interface IC; PackageTopMarking: NSXYTT*X1602*SLBDD; Published: 4-Dec-2008; DatasheetVersion: Jun-2005; PackageVersion: revB, Sep-1998; PackageReference: SLB16A; Publisher: Altium Limited; PackageDescription: CSP, Plastic, Laminated, 3.5 x 3.5 x 1.0mm Body, 16 Lead, 0.5mm Pitch; RoHS: O; PinCount: 16; DigiKeyPartNumber: LMX1602SLBX-ND; Code_JEDEC: MO-208-CCE; ComponentLink1Description: LMX1602 Datasheet; ComponentLink1URL: http://www.national.com/ds/LM/LMX1602.pdf; ComponentLink2Description: LMX1602 Web Page; ComponentLink2URL: http://www.national.com/pf/LM/LMX1602.html; ComponentLink3Description: SLB16A Package Page; ComponentLink3URL: http://www.national.com/packaging/folders/slb16a.html
footprint SLB16A (PQFN, 16-Leads, Body 3.5x3.5mm, Pitch 0.5mm, NSC Recommended)
pins: 1 OSCIN (in), 2 OSCOUT (out), 3 GND (power), 4 FINAUX (in), 5 VCCAUX (power), 6 CPOAUX (out), 7 ENAUX (in), 8 ENMAIN (in), 9 CPOMAIN (out), 10 VCCMAIN (power), 11 FINMAIN (in), 12 GND (power), 13 LE (in), 14 DATA (in), 15 CLOCK (in), 16 FOLD (out)

## LMX1602TM
designator U?
1.1 GHz/1.1 GHz PLLatinum Low Cost Dual Frequency Synthesizer; PartNumber: LMX1602TM; Manufacturer: National Semiconductor; CompType: Interface IC; PackageTopMarking: NSUZXYTT*LMX1602*TMDD; Published: 4-Dec-2008; DatasheetVersion: Jun-2005; PackageVersion: revD, Jun-2003; PackageReference: MTC16; Publisher: Altium Limited; PackageDescription: Molded TSSOP, Jedec, 5 x 4.4 x 0.9mm Body, 16 Lead, 0.65mm Pitch; RoHS: Y; PinCount: 16; DigiKeyPartNumber: LMX1602TM-ND; Code_JEDEC: MO-153-AB; ComponentLink1Description: LMX1602 Datasheet; ComponentLink1URL: http://www.national.com/ds/LM/LMX1602.pdf; ComponentLink2Description: LMX1602 Web Page; ComponentLink2URL: http://www.national.com/pf/LM/LMX1602.html; ComponentLink3Description: MTC16 Package Page; ComponentLink3URL: http://www.national.com/packaging/folders/mtc16.html
footprint MTC16_N (TSOP, 16-Leads, Body 5x4.4mm, Pitch 0.65mm, IPC Medium Density)
footprint MTC16_L (TSOP, 16-Leads, Body 5x4.4mm, Pitch 0.65mm, IPC High Density)
footprint MTC16_M (TSOP, 16-Leads, Body 5x4.4mm, Pitch 0.65mm, IPC Low Density)
pins: 1 FOLD (out), 2 OSCIN (in), 3 OSCOUT (out), 4 GND (power), 5 FINAUX (in), 6 VCCAUX (power), 7 CPOAUX (out), 8 ENAUX (in), 9 ENMAIN (in), 10 CPOMAIN (out), 11 VCCMAIN (power), 12 FINMAIN (in), 13 GND (power), 14 LE (in), 15 DATA (in), 16 CLOCK (in)

## LMX2306SLBX
designator U?
550 MHz PLLatinum Low Power Frequency Synthesizer for RF Personal Communications; PartNumber: LMX2306SLBX; Manufacturer: National Semiconductor; CompType: Interface IC; PackageTopMarking: NSXYTT*X2306*SLBDD; PowerWise: N; Published: 4-Dec-2008; DatasheetVersion: Mar-2004; PackageVersion: revB, Sep-1998; PackageReference: SLB16A; Publisher: Altium Limited; PackageDescription: CSP, Plastic, Laminated, 3.5 x 3.5 x 1.0mm Body, 16 Lead, 0.5mm Pitch; RoHS: O; PinCount: 16; DigiKeyPartNumber: LMX2306SLBXTR-ND; Code_JEDEC: MO-208-CCE; ComponentLink1Description: LMX2306 Datasheet; ComponentLink1URL: http://www.national.com/ds/LM/LMX2306.pdf; ComponentLink2Description: LMX2306 Web Page; ComponentLink2URL: http://www.national.com/pf/LM/LMX2306.html; ComponentLink3Description: SLB16A Package Page; ComponentLink3URL: http://www.national.com/packaging/folders/slb16a.html
footprint SLB16A (PQFN, 16-Leads, Body 3.5x3.5mm, Pitch 0.5mm, NSC Recommended)
pins: 1 GND (power), 2 GND (power), 3 ~{FIN} (in), 4 FIN (in), 5 VCC1 (power), 6 OSCIN (in), 7 GND (power), 8 CE (in), 9 CLOCK (in), 10 DATA (in), 11 LE (in), 12 FO/LD (out), 13 VCC2 (power), 14 VP (power), 15 FLO (out), 16 CPO (out)

## LMX2306TM
designator U?
550 MHz PLLatinum Low Power Frequency Synthesizer for RF Personal Communications; PartNumber: LMX2306TM; Manufacturer: National Semiconductor; CompType: Interface IC; PackageTopMarking: NSUZXYTT*LMX2306*TMDD; PowerWise: N; Published: 4-Dec-2008; DatasheetVersion: Mar-2004; PackageVersion: revD, Jun-2003; PackageReference: MTC16; Publisher: Altium Limited; PackageDescription: Molded TSSOP, Jedec, 5 x 4.4 x 0.9mm Body, 16 Lead, 0.65mm Pitch; RoHS: O; PinCount: 16; DigiKeyPartNumber: LMX2306TM-ND; Code_JEDEC: MO-153-AB; ComponentLink1Description: LMX2306 Datasheet; ComponentLink1URL: http://www.national.com/ds/LM/LMX2306.pdf; ComponentLink2Description: LMX2306 Web Page; ComponentLink2URL: http://www.national.com/pf/LM/LMX2306.html; ComponentLink3Description: MTC16 Package Page; ComponentLink3URL: http://www.national.com/packaging/folders/mtc16.html
footprint MTC16_N (TSOP, 16-Leads, Body 5x4.4mm, Pitch 0.65mm, IPC Medium Density)
footprint MTC16_L (TSOP, 16-Leads, Body 5x4.4mm, Pitch 0.65mm, IPC High Density)
footprint MTC16_M (TSOP, 16-Leads, Body 5x4.4mm, Pitch 0.65mm, IPC Low Density)
pins: 1 FLO (out), 2 CPO (out), 3 GND (power), 4 GND (power), 5 ~{FIN} (in), 6 FIN (in), 7 VCC1 (power), 8 OSCIN (in), 9 GND (power), 10 CE (in), 11 CLOCK (in), 12 DATA (in), 13 LE (in), 14 FO/LD (out), 15 VCC2 (power), 16 VP (power)

## LMX2310USLDX
designator U?
2.5 GHz PLLatinum Ultra Low Power Frequency Synthesizer for RF Personal Communications; PartNumber: LMX2310USLDX; Manufacturer: National Semiconductor; CompType: Interface IC; PackageTopMarking: NSXYTT*X2310U*SLDDD; PowerWise: N; Published: 4-Dec-2008; DatasheetVersion: Dec-2003; PackageVersion: revA, Jun-2001; PackageReference: SLD20A; Publisher: Altium Limited; PackageDescription: Thin CSP, Plastic, Laminated, 3.5 x 3.5 x 0.8mm Body, 20 Lead, .5mm Pitch; RoHS: Y; PinCount: 20; DigiKeyPartNumber: LMX2310USLDXTR-ND; Code_JEDEC: MO-208-CCEA-1; ComponentLink1Description: LMX2310U Datasheet; ComponentLink1URL: http://www.national.com/ds/LM/LMX2310U.pdf; ComponentLink2Description: LMX2310U Web Page; ComponentLink2URL: http://www.national.com/pf/LM/LMX2310U.html; ComponentLink3Description: SLD20A Package Page; ComponentLink3URL: http://www.national.com/packaging/folders/sld20a.html
footprint SLD20A (PQFN, 20-Leads, Body 3.5x3.5mm, Pitch 0.5mm, NSC Recommended)
pins: 1 NC, 2 CPO (out), 3 GND (power), 4 FIN (in), 5 FINB (in), 6 OSCIN (in), 7 NC, 8 OSCOUT (out), 9 FOLD (out), 10 CLOCK (in), 11 NC, 12 DATA (in), 13 LE (in), 14 GND (power), 15 CE (in), 16 VuC (power), 17 NC, 18 VCC (power), 19 FL (out), 20 VP (power)

## LMX2311USLDX
designator U?
2.0 GHz PLLatinum Ultra Low Power Frequency Synthesizer for RF Personal Communications; PartNumber: LMX2311USLDX; Manufacturer: National Semiconductor; CompType: Interface IC; PackageTopMarking: NSXYTT*X2311U*SLDDD; PowerWise: N; Published: 4-Dec-2008; DatasheetVersion: Dec-2003; PackageVersion: revA, Jun-2001; PackageReference: SLD20A; Publisher: Altium Limited; PackageDescription: Thin CSP, Plastic, Laminated, 3.5 x 3.5 x 0.8mm Body, 20 Lead, .5mm Pitch; RoHS: O; PinCount: 20; DigiKeyPartNumber: LMX2311USLDXTR-ND; Code_JEDEC: MO-208-CCEA-1; ComponentLink1Description: LMX2311U Datasheet; ComponentLink1URL: http://www.national.com/ds/LM/LMX2311U.pdf; ComponentLink2Description: LMX2311U Web Page; ComponentLink2URL: http://www.national.com/pf/LM/LMX2311U.html; ComponentLink3Description: SLD20A Package Page; ComponentLink3URL: http://www.national.com/packaging/folders/sld20a.html
footprint SLD20A (PQFN, 20-Leads, Body 3.5x3.5mm, Pitch 0.5mm, NSC Recommended)
pins: 1 NC, 2 CPO (out), 3 GND (power), 4 FIN (in), 5 FINB (in), 6 OSCIN (in), 7 NC, 8 OSCOUT (out), 9 FOLD (out), 10 CLOCK (in), 11 NC, 12 DATA (in), 13 LE (in), 14 GND (power), 15 CE (in), 16 VuC (power), 17 NC, 18 VCC (power), 19 FL (out), 20 VP (power)

## LMX2312USLDX
designator U?
1.2 GHz PLLatinum Ultra Low Power Frequency Synthesizer for RF Personal Communications; PartNumber: LMX2312USLDX; Manufacturer: National Semiconductor; CompType: Interface IC; PackageTopMarking: NSXYTT*X2312U*SLDDD; PowerWise: N; Published: 4-Dec-2008; DatasheetVersion: Dec-2003; PackageVersion: revA, Jun-2001; PackageReference: SLD20A; Publisher: Altium Limited; PackageDescription: Thin CSP, Plastic, Laminated, 3.5 x 3.5 x 0.8mm Body, 20 Lead, .5mm Pitch; RoHS: O; PinCount: 20; DigiKeyPartNumber: LMX2312USLDXTR-ND; Code_JEDEC: MO-208-CCEA-1; ComponentLink1Description: LMX2312U Datasheet; ComponentLink1URL: http://www.national.com/ds/LM/LMX2312U.pdf; ComponentLink2Description: LMX2312U Web Page; ComponentLink2URL: http://www.national.com/pf/LM/LMX2312U.html; ComponentLink3Description: SLD20A Package Page; ComponentLink3URL: http://www.national.com/packaging/folders/sld20a.html
footprint SLD20A (PQFN, 20-Leads, Body 3.5x3.5mm, Pitch 0.5mm, NSC Recommended)
pins: 1 NC, 2 CPO (out), 3 GND (power), 4 FIN (in), 5 FINB (in), 6 OSCIN (in), 7 NC, 8 OSCOUT (out), 9 FOLD (out), 10 CLOCK (in), 11 NC, 12 DATA (in), 13 LE (in), 14 GND (power), 15 CE (in), 16 VuC (power), 17 NC, 18 VCC (power), 19 FL (out), 20 VP (power)

## LMX2313USLDX
designator U?
600 MHz PLLatinum Ultra Low Power Frequency Synthesizer for RF Personal Communications; PartNumber: LMX2313USLDX; Manufacturer: National Semiconductor; CompType: Interface IC; PackageTopMarking: NSXYTT*X2313U*SLDDD; PowerWise: N; Published: 4-Dec-2008; DatasheetVersion: Dec-2003; PackageVersion: revA, Jun-2001; PackageReference: SLD20A; Publisher: Altium Limited; PackageDescription: Thin CSP, Plastic, Laminated, 3.5 x 3.5 x 0.8mm Body, 20 Lead, .5mm Pitch; RoHS: O; PinCount: 20; DigiKeyPartNumber: LMX2313USLDXTR-ND; Code_JEDEC: MO-208-CCEA-1; ComponentLink1Description: LMX2313U Datasheet; ComponentLink1URL: http://www.national.com/ds/LM/LMX2313U.pdf; ComponentLink2Description: LMX2313U Web Page; ComponentLink2URL: http://www.national.com/pf/LM/LMX2313U.html; ComponentLink3Description: SLD20A Package Page; ComponentLink3URL: http://www.national.com/packaging/folders/sld20a.html
footprint SLD20A (PQFN, 20-Leads, Body 3.5x3.5mm, Pitch 0.5mm, NSC Recommended)
pins: 1 NC, 2 CPO (out), 3 GND (power), 4 FIN (in), 5 FINB (in), 6 OSCIN (in), 7 NC, 8 OSCOUT (out), 9 FOLD (out), 10 CLOCK (in), 11 NC, 12 DATA (in), 13 LE (in), 14 GND (power), 15 CE (in), 16 VuC (power), 17 NC, 18 VCC (power), 19 FL (out), 20 VP (power)

## LMX2316SLBX
designator U?
1.2 GHz PLLatinum Low Power Frequency Synthesizer for RF Personal Communications; PartNumber: LMX2316SLBX; Manufacturer: National Semiconductor; CompType: Interface IC; PackageTopMarking: NSXYTT*X2316*SLBDD; Published: 4-Dec-2008; DatasheetVersion: Mar-2004; PackageVersion: revB, Sep-1998; PackageReference: SLB16A; Publisher: Altium Limited; PackageDescription: CSP, Plastic, Laminated, 3.5 x 3.5 x 1.0mm Body, 16 Lead, 0.5mm Pitch; RoHS: O; PinCount: 16; DigiKeyPartNumber: LMX2316SLBXTR-ND; Code_JEDEC: MO-208-CCE; ComponentLink1Description: LMX2316 Datasheet; ComponentLink1URL: http://www.national.com/ds/LM/LMX2316.pdf; ComponentLink2Description: LMX2316 Web Page; ComponentLink2URL: http://www.national.com/pf/LM/LMX2316.html; ComponentLink3Description: SLB16A Package Page; ComponentLink3URL: http://www.national.com/packaging/folders/slb16a.html
footprint SLB16A (PQFN, 16-Leads, Body 3.5x3.5mm, Pitch 0.5mm, NSC Recommended)
pins: 1 GND (power), 2 GND (power), 3 ~{FIN} (in), 4 FIN (in), 5 VCC1 (power), 6 OSCIN (in), 7 GND (power), 8 CE (in), 9 CLOCK (in), 10 DATA (in), 11 LE (in), 12 FO/LD (out), 13 VCC2 (power), 14 VP (power), 15 FLO (out), 16 CPO (out)

## LMX2316TM
designator U?
1.2 GHz PLLatinum Low Power Frequency Synthesizer for RF Personal Communications; PartNumber: LMX2316TM; Manufacturer: National Semiconductor; CompType: Interface IC; PackageTopMarking: NSUZXYTT*LMX2316*TMDD; PowerWise: N; Published: 4-Dec-2008; DatasheetVersion: Mar-2004; PackageVersion: revD, Jun-2003; PackageReference: MTC16; Publisher: Altium Limited; PackageDescription: Molded TSSOP, Jedec, 5 x 4.4 x 0.9mm Body, 16 Lead, 0.65mm Pitch; RoHS: O; PinCount: 16; DigiKeyPartNumber: LMX2316TM-ND; Code_JEDEC: MO-153-AB; ComponentLink1Description: LMX2316 Datasheet; ComponentLink1URL: http://www.national.com/ds/LM/LMX2316.pdf; ComponentLink2Description: LMX2316 Web Page; ComponentLink2URL: http://www.national.com/pf/LM/LMX2316.html; ComponentLink3Description: MTC16 Package Page; ComponentLink3URL: http://www.national.com/packaging/folders/mtc16.html
footprint MTC16_N (TSOP, 16-Leads, Body 5x4.4mm, Pitch 0.65mm, IPC Medium Density)
footprint MTC16_L (TSOP, 16-Leads, Body 5x4.4mm, Pitch 0.65mm, IPC High Density)
footprint MTC16_M (TSOP, 16-Leads, Body 5x4.4mm, Pitch 0.65mm, IPC Low Density)
pins: 1 FLO (out), 2 CPO (out), 3 GND (power), 4 GND (power), 5 ~{FIN} (in), 6 FIN (in), 7 VCC1 (power), 8 OSCIN (in), 9 GND (power), 10 CE (in), 11 CLOCK (in), 12 DATA (in), 13 LE (in), 14 FO/LD (out), 15 VCC2 (power), 16 VP (power)

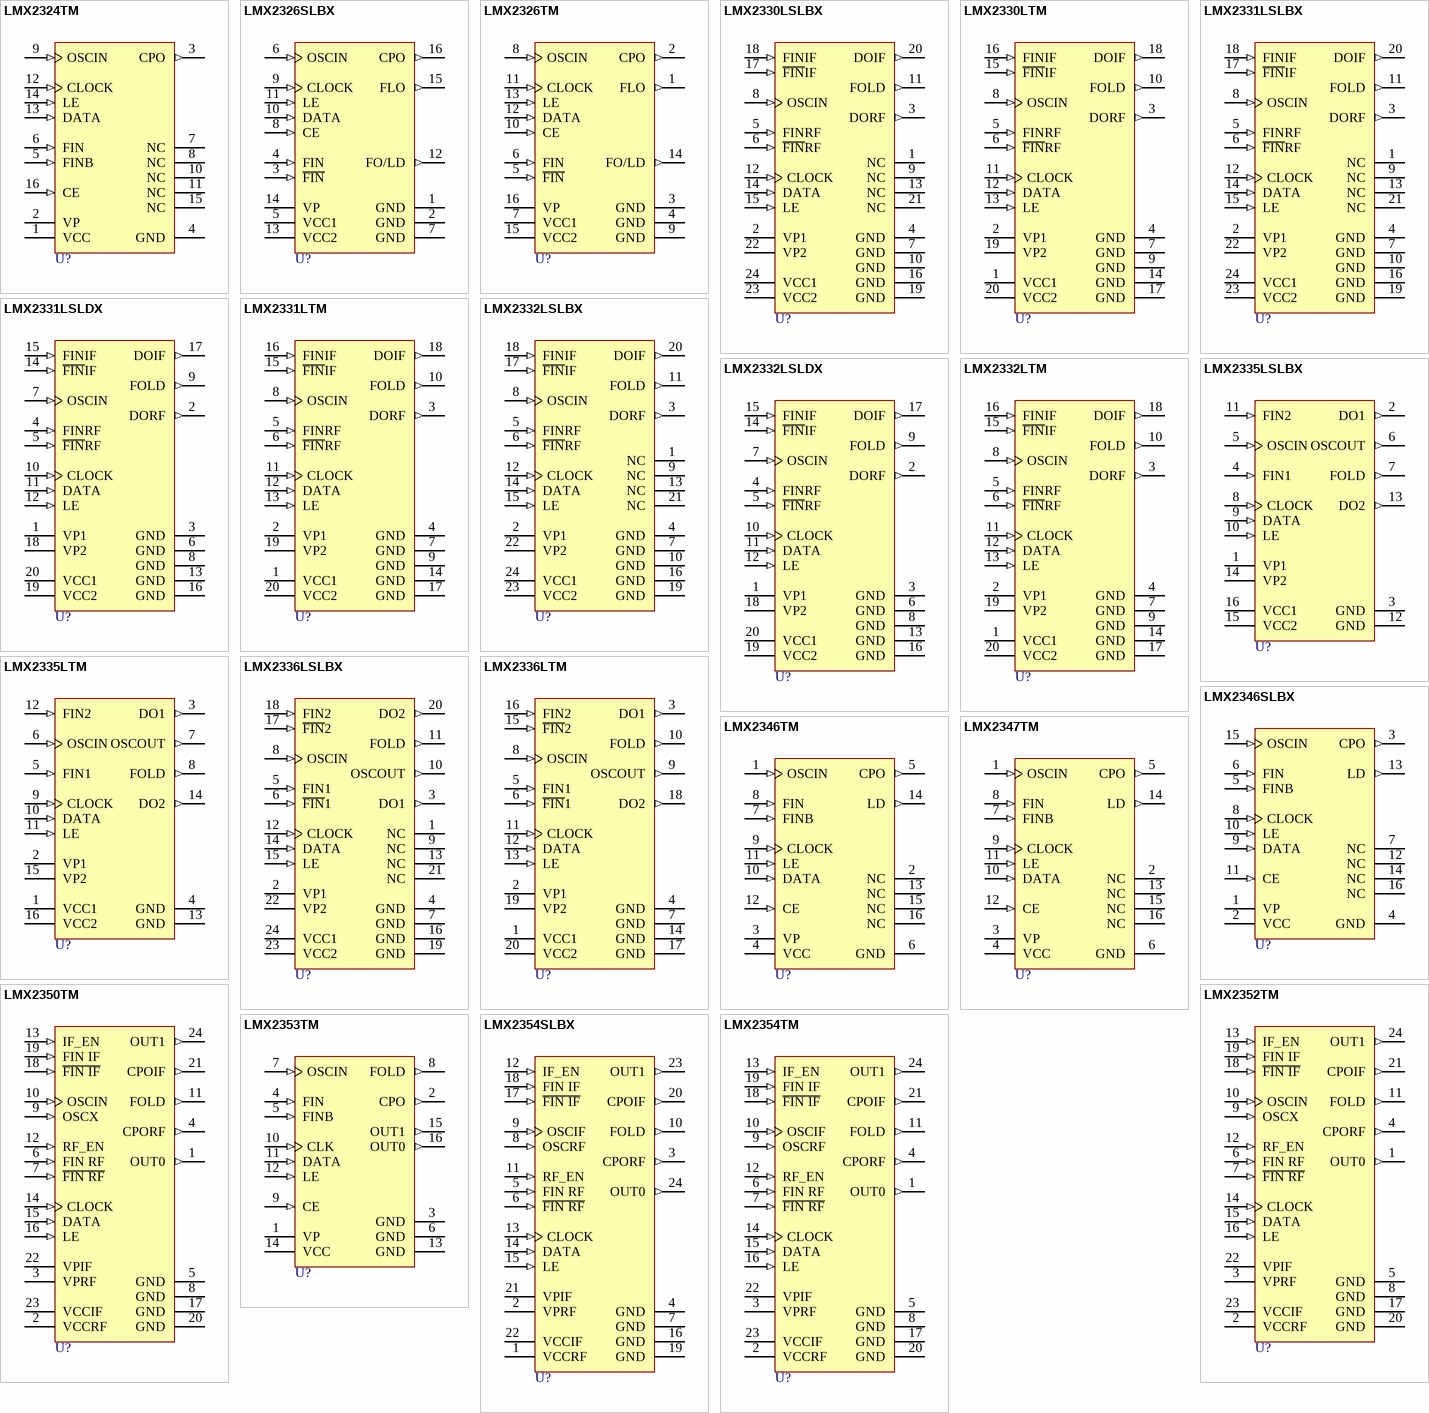
[diagram p34: symbols LMX2324TM to LMX2354TM]